# EAGLE library part BD623*F (library myFab)
H-bridge driver for brush motors Source: http://www.rohm.com/products/databook/motor/pdf/bd623x_series-e.pdf
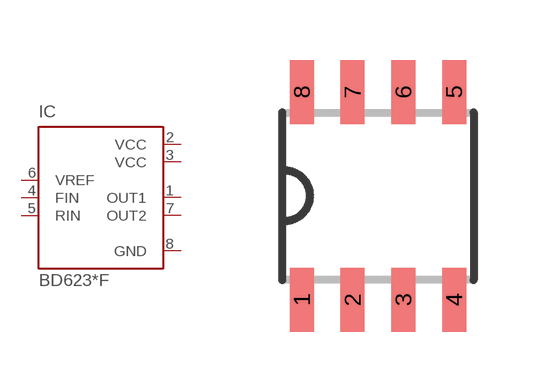
[diagram p2: symbol with the pads of SOP8_BD623*F; footprint SOP8_BD623*F]

Designator prefix IC

## BD6230F (MPN: BD6230F-E2; OC_FARNELL: 1716264; OC_NEWARK: 15R0529), BD6231F (MPN: BD6231F-E2; OC_FARNELL: 1716265; OC_NEWARK: 15R0530)  [SOP8_BD623*F]
1  OUT1  out
2  VCC  pwr
3  VCC  pwr
4  FIN  in
5  RIN  in
6  VREF  pas
7  OUT2  out
8  GND  pwr

## Footprint SOP8_BD623*F (pad centres in mm)
SOP8 Source: http://www.rohm.com/products/databook/motor/pdf/bd623x_series-e.pdf
smd 0.6 x 1.6: 1 -1.905,-2.6; 2 -0.635,-2.6; 3 0.635,-2.6; 4 1.905,-2.6; 5 1.905,2.6; 6 0.635,2.6; 7 -0.635,2.6; 8 -1.905,2.6